# Altium integrated library TI Audio CODEC.IntLib: 199 symbols (part 2 of 17)
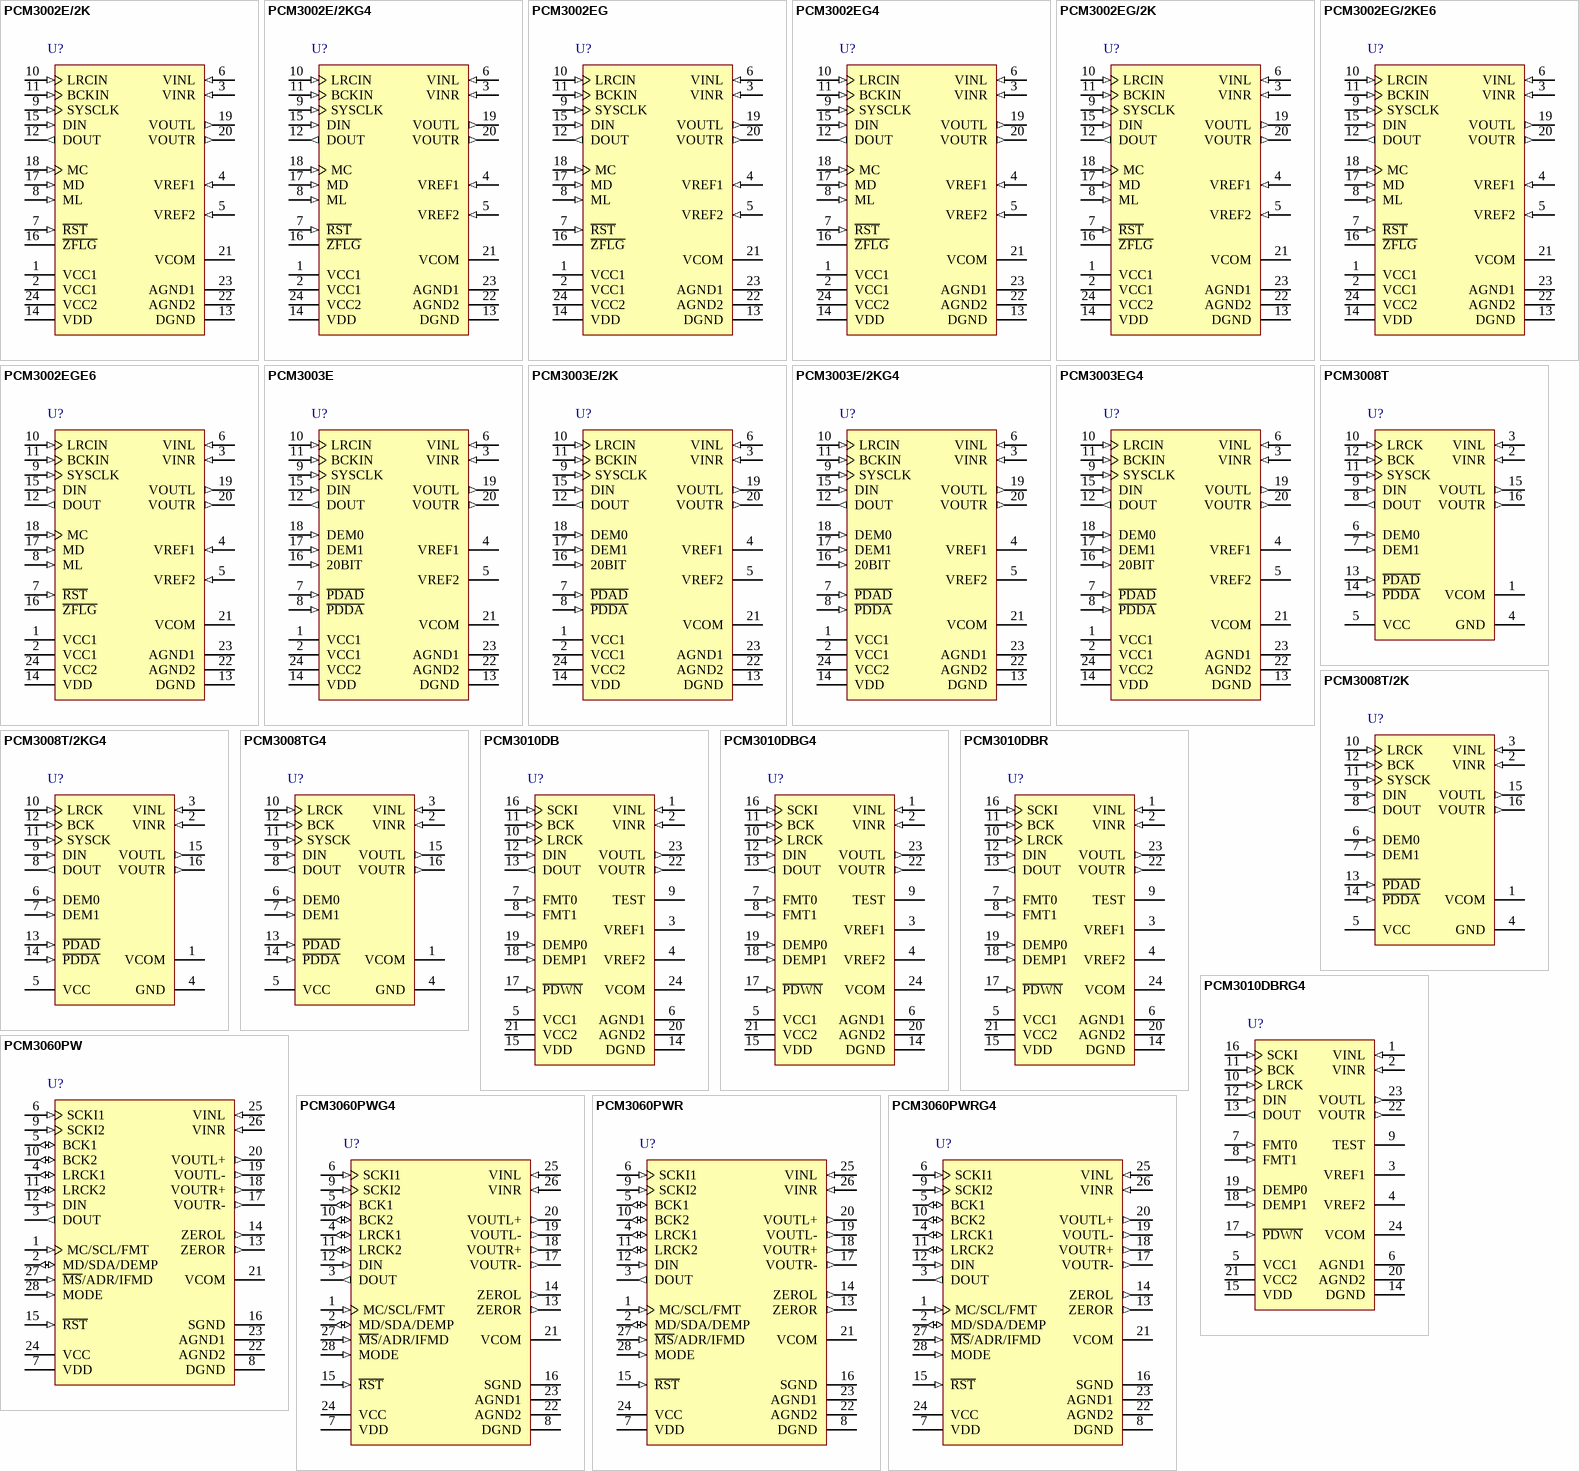
[diagram p14: symbols PCM3002E/2K to PCM3060PWRG4]

## PCM3002EG4
designator U?
Low-Power Stereo CODEC with Line-Out (S / W Control), 2 ADCs and 2 DACs, 94 dB DAC SNR, 24-pin SSOP (DB), Green (RoHS & no Sb/Br); Manufacturer: Texas Instruments; PartNumber: PCM3002EG4; # ADCs (typ): 2; Battery Powered: TRUE; Control Interface: SPI; DAC SNR: 94; Digital Audio Interfaces: R, L, I2S; Sampling Rate (Max) (kHz): 48; DatasheetVersion: SBAS079A; PackageVersion: revE, Dec-2001; PackageReference: DB24; PackageDescription: 24-Pin Plastic Small Outline Package, 8.2 x 5.3 mm Body, 0.65 mm Pitch; Supplier 1: Digi-Key; Supplier Part Number 1: PCM3002EG4-ND; Supplier 2: Newark; Supplier Part Number 2: 66K4095; Supplier 3: Mouser; Supplier Part Number 3: 595-PCM3002EG4; # DACs: 2; Mounting Technology: Surface Mount; Code_JEDEC: MO-150; ComponentLink1Description: Datasheet; ComponentLink1URL: http://www.ti.com/general/docs/lit/getliterature.tsp?genericPartNumber=PCM3002&fileType=pdf
footprint DB24_N (SOP, 24-Leads, Body 8.2x5.3mm, Pitch 0.65mm, IPC Medium Density)
footprint DB24_L (SOP, 24-Leads, Body 8.2x5.3mm, Pitch 0.65mm, IPC High Density)
footprint DB24_M (SOP, 24-Leads, Body 8.2x5.3mm, Pitch 0.65mm, IPC Low Density)
pins: 1 VCC1 (power) "ADC analog power supply", 2 VCC1 (power) "ADC analog power supply", 3 VINR (in) "ADC analog input, Rch", 4 VREF1 (in) "ADC reference 1", 5 VREF2 (in) "ADC reference 2", 6 VINL (in) "ADC analog input, Lch", 7 ~{RST} (in) "Reset, active LOW", 8 ML (in) "Strobe pulse for mode control", 9 SYSCLK (in) "System clock input", 10 LRCIN (in) "Sample rate clock input (f s )", 11 BCKIN (in) "Bit clock input", 12 DOUT (out) "Data output", 13 DGND (power) "Digital ground", 14 VDD (power) "Digital power supply", 15 DIN (in) "Data input", 16 ~{ZFLG} (hiz) "Zero flag output, active LOW", 17 MD (in) "Serial data for mode control", 18 MC (in) "Bit clock for mode control", 19 VOUTL (out) "DAC analog output, Lch", 20 VOUTR (out) "DAC analog output, Rch", 21 VCOM "ADC/DAC common", 22 AGND2 (power) "DAC analog ground", 23 AGND1 (power) "ADC analog ground", 24 VCC2 (power) "DAC analog power supply"

## PCM3002EG/2K
designator U?
Low-Power Stereo CODEC with Line-Out (S / W Control), 2 ADCs and 2 DACs, 94 dB DAC SNR, 24-pin SSOP (DB), Pb-Free (RoHS); Manufacturer: Texas Instruments; PartNumber: PCM3002EG/2K; # ADCs (typ): 2; Battery Powered: TRUE; Control Interface: SPI; DAC SNR: 94; Digital Audio Interfaces: R, L, I2S; Sampling Rate (Max) (kHz): 48; DatasheetVersion: SBAS079A; PackageVersion: revE, Dec-2001; PackageReference: DB24; PackageDescription: 24-Pin Plastic Small Outline Package, 8.2 x 5.3 mm Body, 0.65 mm Pitch; Supplier 1: Digi-Key; Supplier Part Number 1: PCM3002EG/2K-ND; Supplier 2: Newark; Supplier Part Number 2: 43J9717; Supplier 3: Mouser; Supplier Part Number 3: 595-PCM3002EG/2K; # DACs: 2; Mounting Technology: Surface Mount; Code_JEDEC: MO-150; ComponentLink1Description: Datasheet; ComponentLink1URL: http://www.ti.com/general/docs/lit/getliterature.tsp?genericPartNumber=PCM3002&fileType=pdf
footprint DB24_N (SOP, 24-Leads, Body 8.2x5.3mm, Pitch 0.65mm, IPC Medium Density)
footprint DB24_L (SOP, 24-Leads, Body 8.2x5.3mm, Pitch 0.65mm, IPC High Density)
footprint DB24_M (SOP, 24-Leads, Body 8.2x5.3mm, Pitch 0.65mm, IPC Low Density)
pins: 1 VCC1 (power) "ADC analog power supply", 2 VCC1 (power) "ADC analog power supply", 3 VINR (in) "ADC analog input, Rch", 4 VREF1 (in) "ADC reference 1", 5 VREF2 (in) "ADC reference 2", 6 VINL (in) "ADC analog input, Lch", 7 ~{RST} (in) "Reset, active LOW", 8 ML (in) "Strobe pulse for mode control", 9 SYSCLK (in) "System clock input", 10 LRCIN (in) "Sample rate clock input (f s )", 11 BCKIN (in) "Bit clock input", 12 DOUT (out) "Data output", 13 DGND (power) "Digital ground", 14 VDD (power) "Digital power supply", 15 DIN (in) "Data input", 16 ~{ZFLG} (hiz) "Zero flag output, active LOW", 17 MD (in) "Serial data for mode control", 18 MC (in) "Bit clock for mode control", 19 VOUTL (out) "DAC analog output, Lch", 20 VOUTR (out) "DAC analog output, Rch", 21 VCOM "ADC/DAC common", 22 AGND2 (power) "DAC analog ground", 23 AGND1 (power) "ADC analog ground", 24 VCC2 (power) "DAC analog power supply"

## PCM3002EG/2KE6
designator U?
Low-Power Stereo CODEC with Line-Out (S / W Control), 2 ADCs and 2 DACs, 94 dB DAC SNR, 24-pin SSOP (DB), Pb-Free (RoHS); Manufacturer: Texas Instruments; PartNumber: PCM3002EG/2KE6; # ADCs (typ): 2; Battery Powered: TRUE; Control Interface: SPI; DAC SNR: 94; Digital Audio Interfaces: R, L, I2S; Sampling Rate (Max) (kHz): 48; DatasheetVersion: SBAS079A; PackageVersion: revE, Dec-2001; PackageReference: DB24; PackageDescription: 24-Pin Plastic Small Outline Package, 8.2 x 5.3 mm Body, 0.65 mm Pitch; Supplier 1: Digi-Key; Supplier Part Number 1: PCM3002EG/2KE6-ND; Supplier 2: Newark; Supplier Part Number 2: 28M6717; Supplier 3: Mouser; Supplier Part Number 3: 595-PCM3002EG/2KE6; # DACs: 2; Mounting Technology: Surface Mount; Code_JEDEC: MO-150; ComponentLink1Description: Datasheet; ComponentLink1URL: http://www.ti.com/general/docs/lit/getliterature.tsp?genericPartNumber=PCM3002&fileType=pdf
footprint DB24_N (SOP, 24-Leads, Body 8.2x5.3mm, Pitch 0.65mm, IPC Medium Density)
footprint DB24_L (SOP, 24-Leads, Body 8.2x5.3mm, Pitch 0.65mm, IPC High Density)
footprint DB24_M (SOP, 24-Leads, Body 8.2x5.3mm, Pitch 0.65mm, IPC Low Density)
pins: 1 VCC1 (power) "ADC analog power supply", 2 VCC1 (power) "ADC analog power supply", 3 VINR (in) "ADC analog input, Rch", 4 VREF1 (in) "ADC reference 1", 5 VREF2 (in) "ADC reference 2", 6 VINL (in) "ADC analog input, Lch", 7 ~{RST} (in) "Reset, active LOW", 8 ML (in) "Strobe pulse for mode control", 9 SYSCLK (in) "System clock input", 10 LRCIN (in) "Sample rate clock input (f s )", 11 BCKIN (in) "Bit clock input", 12 DOUT (out) "Data output", 13 DGND (power) "Digital ground", 14 VDD (power) "Digital power supply", 15 DIN (in) "Data input", 16 ~{ZFLG} (hiz) "Zero flag output, active LOW", 17 MD (in) "Serial data for mode control", 18 MC (in) "Bit clock for mode control", 19 VOUTL (out) "DAC analog output, Lch", 20 VOUTR (out) "DAC analog output, Rch", 21 VCOM "ADC/DAC common", 22 AGND2 (power) "DAC analog ground", 23 AGND1 (power) "ADC analog ground", 24 VCC2 (power) "DAC analog power supply"

## PCM3002EGE6
designator U?
Low-Power Stereo CODEC with Line-Out (S / W Control), 2 ADCs and 2 DACs, 94 dB DAC SNR, 24-pin SSOP (DB), Pb-Free (RoHS); Manufacturer: Texas Instruments; PartNumber: PCM3002EGE6; # ADCs (typ): 2; Battery Powered: TRUE; Control Interface: SPI; DAC SNR: 94; Digital Audio Interfaces: R, L, I2S; Sampling Rate (Max) (kHz): 48; DatasheetVersion: SBAS079A; PackageVersion: revE, Dec-2001; PackageReference: DB24; PackageDescription: 24-Pin Plastic Small Outline Package, 8.2 x 5.3 mm Body, 0.65 mm Pitch; Supplier 1: Digi-Key; Supplier Part Number 1: PCM3002EGE6-ND; Supplier 2: Newark; Supplier Part Number 2: 28M6718; Supplier 3: Mouser; Supplier Part Number 3: 595-PCM3002EGE6; # DACs: 2; Mounting Technology: Surface Mount; Code_JEDEC: MO-150; ComponentLink1Description: Datasheet; ComponentLink1URL: http://www.ti.com/general/docs/lit/getliterature.tsp?genericPartNumber=PCM3002&fileType=pdf
footprint DB24_N (SOP, 24-Leads, Body 8.2x5.3mm, Pitch 0.65mm, IPC Medium Density)
footprint DB24_L (SOP, 24-Leads, Body 8.2x5.3mm, Pitch 0.65mm, IPC High Density)
footprint DB24_M (SOP, 24-Leads, Body 8.2x5.3mm, Pitch 0.65mm, IPC Low Density)
pins: 1 VCC1 (power) "ADC analog power supply", 2 VCC1 (power) "ADC analog power supply", 3 VINR (in) "ADC analog input, Rch", 4 VREF1 (in) "ADC reference 1", 5 VREF2 (in) "ADC reference 2", 6 VINL (in) "ADC analog input, Lch", 7 ~{RST} (in) "Reset, active LOW", 8 ML (in) "Strobe pulse for mode control", 9 SYSCLK (in) "System clock input", 10 LRCIN (in) "Sample rate clock input (f s )", 11 BCKIN (in) "Bit clock input", 12 DOUT (out) "Data output", 13 DGND (power) "Digital ground", 14 VDD (power) "Digital power supply", 15 DIN (in) "Data input", 16 ~{ZFLG} (hiz) "Zero flag output, active LOW", 17 MD (in) "Serial data for mode control", 18 MC (in) "Bit clock for mode control", 19 VOUTL (out) "DAC analog output, Lch", 20 VOUTR (out) "DAC analog output, Rch", 21 VCOM "ADC/DAC common", 22 AGND2 (power) "DAC analog ground", 23 AGND1 (power) "ADC analog ground", 24 VCC2 (power) "DAC analog power supply"

## PCM3003E
designator U?
Low-Power Stereo CODEC with Line-Out (H / W Control), 2 ADCs and 2 DACs, 94 dB DAC SNR, 24-pin SSOP (DB), Green (RoHS & no Sb/Br); Manufacturer: Texas Instruments; PartNumber: PCM3003E; # ADCs (typ): 2; Battery Powered: TRUE; Control Interface: H/W; DAC SNR: 94; Digital Audio Interfaces: R, L; Sampling Rate (Max) (kHz): 48; DatasheetVersion: SBAS079A; PackageVersion: revE, Dec-2001; PackageReference: DB24; PackageDescription: 24-Pin Plastic Small Outline Package, 8.2 x 5.3 mm Body, 0.65 mm Pitch; Supplier 1: Digi-Key; Supplier Part Number 1: PCM3003E-ND; Supplier 2: Newark; Supplier Part Number 2: 74C5855; Supplier 3: Mouser; Supplier Part Number 3: 595-PCM3003E; # DACs: 2; Mounting Technology: Surface Mount; Code_JEDEC: MO-150; ComponentLink1Description: Datasheet; ComponentLink1URL: http://www.ti.com/general/docs/lit/getliterature.tsp?genericPartNumber=PCM3003&fileType=pdf
footprint DB24_N (SOP, 24-Leads, Body 8.2x5.3mm, Pitch 0.65mm, IPC Medium Density)
footprint DB24_L (SOP, 24-Leads, Body 8.2x5.3mm, Pitch 0.65mm, IPC High Density)
footprint DB24_M (SOP, 24-Leads, Body 8.2x5.3mm, Pitch 0.65mm, IPC Low Density)
pins: 1 VCC1 (power) "ADC analog power supply", 2 VCC1 (power) "ADC analog power supply", 3 VINR (in) "ADC analog input, Rch", 4 VREF1 "ADC reference 1", 5 VREF2 "ADC reference 2", 6 VINL (in) "ADC analog input, Lch", 7 ~{PDAD} (in) "ADC power down, active LOW", 8 ~{PDDA} (in) "DAC power down, active LOW", 9 SYSCLK (in) "System clock input", 10 LRCIN (in) "Sample rate clock input (fs)", 11 BCKIN (in) "Bit clock input", 12 DOUT (out) "Data output", 13 DGND (power) "Digital ground", 14 VDD (power) "Digital power supply", 15 DIN (in) "Data input", 16 20BIT (in) "20-bit format select", 17 DEM1 (in) "De-emphasis control 1", 18 DEM0 (in) "De-emphasis control 0", 19 VOUTL (out) "DAC analog output, Lch", 20 VOUTR (out) "DAC analog output, Rch", 21 VCOM "ADC/DAC common", 22 AGND2 (power) "DAC analog ground", 23 AGND1 (power) "ADC analog ground", 24 VCC2 (power) "DAC analog power supply"

## PCM3003E/2K
designator U?
Low-Power Stereo CODEC with Line-Out (H / W Control), 2 ADCs and 2 DACs, 94 dB DAC SNR, 24-pin SSOP (DB), Green (RoHS & no Sb/Br); Manufacturer: Texas Instruments; PartNumber: PCM3003E/2K; # ADCs (typ): 2; Battery Powered: TRUE; Control Interface: H/W; DAC SNR: 94; Digital Audio Interfaces: R, L; Sampling Rate (Max) (kHz): 48; DatasheetVersion: SBAS079A; PackageVersion: revE, Dec-2001; PackageReference: DB24; PackageDescription: 24-Pin Plastic Small Outline Package, 8.2 x 5.3 mm Body, 0.65 mm Pitch; Supplier 1: Digi-Key; Supplier Part Number 1: PCM3003E/2K-ND; Supplier 2: Newark; Supplier Part Number 2: 75C5391; Supplier 3: Mouser; Supplier Part Number 3: 595-PCM3003E/2K; # DACs: 2; Mounting Technology: Surface Mount; Code_JEDEC: MO-150; ComponentLink1Description: Datasheet; ComponentLink1URL: http://www.ti.com/general/docs/lit/getliterature.tsp?genericPartNumber=PCM3003&fileType=pdf
footprint DB24_N (SOP, 24-Leads, Body 8.2x5.3mm, Pitch 0.65mm, IPC Medium Density)
footprint DB24_L (SOP, 24-Leads, Body 8.2x5.3mm, Pitch 0.65mm, IPC High Density)
footprint DB24_M (SOP, 24-Leads, Body 8.2x5.3mm, Pitch 0.65mm, IPC Low Density)
pins: 1 VCC1 (power) "ADC analog power supply", 2 VCC1 (power) "ADC analog power supply", 3 VINR (in) "ADC analog input, Rch", 4 VREF1 "ADC reference 1", 5 VREF2 "ADC reference 2", 6 VINL (in) "ADC analog input, Lch", 7 ~{PDAD} (in) "ADC power down, active LOW", 8 ~{PDDA} (in) "DAC power down, active LOW", 9 SYSCLK (in) "System clock input", 10 LRCIN (in) "Sample rate clock input (fs)", 11 BCKIN (in) "Bit clock input", 12 DOUT (out) "Data output", 13 DGND (power) "Digital ground", 14 VDD (power) "Digital power supply", 15 DIN (in) "Data input", 16 20BIT (in) "20-bit format select", 17 DEM1 (in) "De-emphasis control 1", 18 DEM0 (in) "De-emphasis control 0", 19 VOUTL (out) "DAC analog output, Lch", 20 VOUTR (out) "DAC analog output, Rch", 21 VCOM "ADC/DAC common", 22 AGND2 (power) "DAC analog ground", 23 AGND1 (power) "ADC analog ground", 24 VCC2 (power) "DAC analog power supply"

## PCM3003E/2KG4
designator U?
Low-Power Stereo CODEC with Line-Out (H / W Control), 2 ADCs and 2 DACs, 94 dB DAC SNR, 24-pin SSOP (DB), Green (RoHS & no Sb/Br); Manufacturer: Texas Instruments; PartNumber: PCM3003E/2KG4; # ADCs (typ): 2; Battery Powered: TRUE; Control Interface: H/W; DAC SNR: 94; Digital Audio Interfaces: R, L; Sampling Rate (Max) (kHz): 48; DatasheetVersion: SBAS079A; PackageVersion: revE, Dec-2001; PackageReference: DB24; PackageDescription: 24-Pin Plastic Small Outline Package, 8.2 x 5.3 mm Body, 0.65 mm Pitch; Supplier 1: Digi-Key; Supplier Part Number 1: PCM3003E/2KG4-ND; Supplier 2: Newark; Supplier Part Number 2: 66K4096; Supplier 3: Mouser; Supplier Part Number 3: 595-PCM3003E/2KG4; # DACs: 2; Mounting Technology: Surface Mount; Code_JEDEC: MO-150; ComponentLink1Description: Datasheet; ComponentLink1URL: http://www.ti.com/general/docs/lit/getliterature.tsp?genericPartNumber=PCM3003&fileType=pdf
footprint DB24_N (SOP, 24-Leads, Body 8.2x5.3mm, Pitch 0.65mm, IPC Medium Density)
footprint DB24_L (SOP, 24-Leads, Body 8.2x5.3mm, Pitch 0.65mm, IPC High Density)
footprint DB24_M (SOP, 24-Leads, Body 8.2x5.3mm, Pitch 0.65mm, IPC Low Density)
pins: 1 VCC1 (power) "ADC analog power supply", 2 VCC1 (power) "ADC analog power supply", 3 VINR (in) "ADC analog input, Rch", 4 VREF1 "ADC reference 1", 5 VREF2 "ADC reference 2", 6 VINL (in) "ADC analog input, Lch", 7 ~{PDAD} (in) "ADC power down, active LOW", 8 ~{PDDA} (in) "DAC power down, active LOW", 9 SYSCLK (in) "System clock input", 10 LRCIN (in) "Sample rate clock input (fs)", 11 BCKIN (in) "Bit clock input", 12 DOUT (out) "Data output", 13 DGND (power) "Digital ground", 14 VDD (power) "Digital power supply", 15 DIN (in) "Data input", 16 20BIT (in) "20-bit format select", 17 DEM1 (in) "De-emphasis control 1", 18 DEM0 (in) "De-emphasis control 0", 19 VOUTL (out) "DAC analog output, Lch", 20 VOUTR (out) "DAC analog output, Rch", 21 VCOM "ADC/DAC common", 22 AGND2 (power) "DAC analog ground", 23 AGND1 (power) "ADC analog ground", 24 VCC2 (power) "DAC analog power supply"

## PCM3003EG4
designator U?
Low-Power Stereo CODEC with Line-Out (H / W Control), 2 ADCs and 2 DACs, 94 dB DAC SNR, 24-pin SSOP (DB), Green (RoHS & no Sb/Br); Manufacturer: Texas Instruments; PartNumber: PCM3003EG4; # ADCs (typ): 2; Battery Powered: TRUE; Control Interface: H/W; DAC SNR: 94; Digital Audio Interfaces: R, L; Sampling Rate (Max) (kHz): 48; DatasheetVersion: SBAS079A; PackageVersion: revE, Dec-2001; PackageReference: DB24; PackageDescription: 24-Pin Plastic Small Outline Package, 8.2 x 5.3 mm Body, 0.65 mm Pitch; Supplier 1: Digi-Key; Supplier Part Number 1: PCM3003EG4-ND; Supplier 2: Newark; Supplier Part Number 2: 20M5705; Supplier 3: Mouser; Supplier Part Number 3: 595-PCM3003EG4; # DACs: 2; Mounting Technology: Surface Mount; Code_JEDEC: MO-150; ComponentLink1Description: Datasheet; ComponentLink1URL: http://www.ti.com/general/docs/lit/getliterature.tsp?genericPartNumber=PCM3003&fileType=pdf
footprint DB24_N (SOP, 24-Leads, Body 8.2x5.3mm, Pitch 0.65mm, IPC Medium Density)
footprint DB24_L (SOP, 24-Leads, Body 8.2x5.3mm, Pitch 0.65mm, IPC High Density)
footprint DB24_M (SOP, 24-Leads, Body 8.2x5.3mm, Pitch 0.65mm, IPC Low Density)
pins: 1 VCC1 (power) "ADC analog power supply", 2 VCC1 (power) "ADC analog power supply", 3 VINR (in) "ADC analog input, Rch", 4 VREF1 "ADC reference 1", 5 VREF2 "ADC reference 2", 6 VINL (in) "ADC analog input, Lch", 7 ~{PDAD} (in) "ADC power down, active LOW", 8 ~{PDDA} (in) "DAC power down, active LOW", 9 SYSCLK (in) "System clock input", 10 LRCIN (in) "Sample rate clock input (fs)", 11 BCKIN (in) "Bit clock input", 12 DOUT (out) "Data output", 13 DGND (power) "Digital ground", 14 VDD (power) "Digital power supply", 15 DIN (in) "Data input", 16 20BIT (in) "20-bit format select", 17 DEM1 (in) "De-emphasis control 1", 18 DEM0 (in) "De-emphasis control 0", 19 VOUTL (out) "DAC analog output, Lch", 20 VOUTR (out) "DAC analog output, Rch", 21 VCOM "ADC/DAC common", 22 AGND2 (power) "DAC analog ground", 23 AGND1 (power) "ADC analog ground", 24 VCC2 (power) "DAC analog power supply"

## PCM3008T
designator U?
Low-Power and Low-Voltage Stereo CODEC with Line-Out (H / W Control), 2 ADCs and 2 DACs, 92 dB DAC SNR, -25 to 85 degC, 16-pin TSSOP (PW), Green (RoHS & no Sb/Br); Manufacturer: Texas Instruments; PartNumber: PCM3008T; # ADCs (typ): 2; Battery Powered: TRUE; Control Interface: H/W; DAC SNR: 92; Digital Audio Interfaces: R, L; Sampling Rate (Max) (kHz): 48; DatasheetVersion: SLAS332; PackageVersion: revG, Feb-2011; PackageReference: PW16; PackageDescription: 16-Pin Plastic Thin Small Outline Package 5 x 4.4 mm Body ,0.65 mm Pitch; Supplier 1: Digi-Key; Supplier Part Number 1: PCM3008T-ND; Supplier 2: Newark; Supplier Part Number 2: 75C5394; Supplier 3: Mouser; Supplier Part Number 3: 595-PCM3008T; # DACs: 2; Mounting Technology: Surface Mount; Code_JEDEC: MO-153; ComponentLink1Description: Datasheet; ComponentLink1URL: http://www.ti.com/general/docs/lit/getliterature.tsp?genericPartNumber=PCM3008&fileType=pdf
footprint PW16_N (TSOP, 16-Leads, Body 5x4.4mm, Pitch 0.65mm, IPC Medium Density)
footprint PW16_L (TSOP, 16-Leads, Body 5x4.4mm, Pitch 0.65mm, IPC High Density)
footprint PW16_M (TSOP, 16-Leads, Body 5x4.4mm, Pitch 0.65mm, IPC Low Density)
pins: 1 VCOM "ADC/DAC common decouple", 2 VINR (in) "ADC analog input, R-channel.", 3 VINL (in) "ADC analog input, L-channel.", 4 GND (power) "Ground.", 5 VCC (power) "Power supply.", 6 DEM0 (in) "De-emphasis control 0", 7 DEM1 (in) "De-emphasis control 1", 8 DOUT (out) "Data output", 9 DIN (in) "Data input", 10 LRCK (in) "Sampling clock input", 11 SYSCK (in) "System clock input", 12 BCK (in) "Bit clock input", 13 ~{PDAD} (in) "ADC power down, active low", 14 ~{PDDA} (in) "DAC power down, active low", 15 VOUTL (out) "DAC analog output, L-channel.", 16 VOUTR (out) "DAC analog output, R-channel."

## PCM3008T/2K
designator U?
Low-Power and Low Voltage Stereo CODEC with Line-Out (H / W Control), 2 ADCs and 2 DACs, 92 dB DAC SNR, -25 to 85 degC, 16-pin TSSOP (PW), Green (RoHS & no Sb/Br); Manufacturer: Texas Instruments; PartNumber: PCM3008T/2K; # ADCs (typ): 2; Battery Powered: TRUE; Control Interface: H/W; DAC SNR: 92; Digital Audio Interfaces: R, L; Sampling Rate (Max) (kHz): 48; DatasheetVersion: SLAS332; PackageVersion: revG, Feb-2011; PackageReference: PW16; PackageDescription: 16-Pin Plastic Thin Small Outline Package 5 x 4.4 mm Body ,0.65 mm Pitch; Supplier 1: Digi-Key; Supplier Part Number 1: PCM3008T/2K-ND; Supplier 2: Newark; Supplier Part Number 2: 75C5395; Supplier 3: Mouser; Supplier Part Number 3: 595-PCM3008T/2K; # DACs: 2; Mounting Technology: Surface Mount; Code_JEDEC: MO-153; ComponentLink1Description: Datasheet; ComponentLink1URL: http://www.ti.com/general/docs/lit/getliterature.tsp?genericPartNumber=PCM3008&fileType=pdf
footprint PW16_N (TSOP, 16-Leads, Body 5x4.4mm, Pitch 0.65mm, IPC Medium Density)
footprint PW16_L (TSOP, 16-Leads, Body 5x4.4mm, Pitch 0.65mm, IPC High Density)
footprint PW16_M (TSOP, 16-Leads, Body 5x4.4mm, Pitch 0.65mm, IPC Low Density)
pins: 1 VCOM "ADC/DAC common decouple", 2 VINR (in) "ADC analog input, R-channel.", 3 VINL (in) "ADC analog input, L-channel.", 4 GND (power) "Ground.", 5 VCC (power) "Power supply.", 6 DEM0 (in) "De-emphasis control 0", 7 DEM1 (in) "De-emphasis control 1", 8 DOUT (out) "Data output", 9 DIN (in) "Data input", 10 LRCK (in) "Sampling clock input", 11 SYSCK (in) "System clock input", 12 BCK (in) "Bit clock input", 13 ~{PDAD} (in) "ADC power down, active low", 14 ~{PDDA} (in) "DAC power down, active low", 15 VOUTL (out) "DAC analog output, L-channel.", 16 VOUTR (out) "DAC analog output, R-channel."

## PCM3008T/2KG4
designator U?
Low-Power and Low-Voltage Stereo CODEC with Line-Out (H / W Control), 2 ADCs and 2 DACs, 92 dB DAC SNR, -25 to 85 degC, 16-pin TSSOP (PW), Green (RoHS & no Sb/Br); Manufacturer: Texas Instruments; PartNumber: PCM3008T/2KG4; # ADCs (typ): 2; Battery Powered: TRUE; Control Interface: H/W; DAC SNR: 92; Digital Audio Interfaces: R, L; Sampling Rate (Max) (kHz): 48; DatasheetVersion: SLAS332; PackageVersion: revG, Feb-2011; PackageReference: PW16; PackageDescription: 16-Pin Plastic Thin Small Outline Package 5 x 4.4 mm Body ,0.65 mm Pitch; Supplier 1: Digi-Key; Supplier Part Number 1: PCM3008T/2KG4-ND; Supplier 2: Newark; Supplier Part Number 2: 66K4097; Supplier 3: Mouser; Supplier Part Number 3: 595-PCM3008T/2KG4; # DACs: 2; Mounting Technology: Surface Mount; Code_JEDEC: MO-153; ComponentLink1Description: Datasheet; ComponentLink1URL: http://www.ti.com/general/docs/lit/getliterature.tsp?genericPartNumber=PCM3008&fileType=pdf
footprint PW16_N (TSOP, 16-Leads, Body 5x4.4mm, Pitch 0.65mm, IPC Medium Density)
footprint PW16_L (TSOP, 16-Leads, Body 5x4.4mm, Pitch 0.65mm, IPC High Density)
footprint PW16_M (TSOP, 16-Leads, Body 5x4.4mm, Pitch 0.65mm, IPC Low Density)
pins: 1 VCOM "ADC/DAC common decouple", 2 VINR (in) "ADC analog input, R-channel.", 3 VINL (in) "ADC analog input, L-channel.", 4 GND (power) "Ground.", 5 VCC (power) "Power supply.", 6 DEM0 (in) "De-emphasis control 0", 7 DEM1 (in) "De-emphasis control 1", 8 DOUT (out) "Data output", 9 DIN (in) "Data input", 10 LRCK (in) "Sampling clock input", 11 SYSCK (in) "System clock input", 12 BCK (in) "Bit clock input", 13 ~{PDAD} (in) "ADC power down, active low", 14 ~{PDDA} (in) "DAC power down, active low", 15 VOUTL (out) "DAC analog output, L-channel.", 16 VOUTR (out) "DAC analog output, R-channel."

## PCM3008TG4
designator U?
Low-Power and Low-Voltage Stereo CODEC with Line-Out (H / W Control), 2 ADCs and 2 DACs, 92 dB DAC SNR, -25 to 85 degC, 16-pin TSSOP (PW), Green (RoHS & no Sb/Br); Manufacturer: Texas Instruments; PartNumber: PCM3008TG4; # ADCs (typ): 2; Battery Powered: TRUE; Control Interface: H/W; DAC SNR: 92; Digital Audio Interfaces: R, L; Sampling Rate (Max) (kHz): 48; DatasheetVersion: SLAS332; PackageVersion: revG, Feb-2011; PackageReference: PW16; PackageDescription: 16-Pin Plastic Thin Small Outline Package 5 x 4.4 mm Body ,0.65 mm Pitch; Supplier 1: Digi-Key; Supplier Part Number 1: PCM3008TG4-ND; Supplier 2: Newark; Supplier Part Number 2: 66K4098; Supplier 3: Mouser; Supplier Part Number 3: 595-PCM3008TG4; # DACs: 2; Mounting Technology: Surface Mount; Code_JEDEC: MO-153; ComponentLink1Description: Datasheet; ComponentLink1URL: http://www.ti.com/general/docs/lit/getliterature.tsp?genericPartNumber=PCM3008&fileType=pdf
footprint PW16_N (TSOP, 16-Leads, Body 5x4.4mm, Pitch 0.65mm, IPC Medium Density)
footprint PW16_L (TSOP, 16-Leads, Body 5x4.4mm, Pitch 0.65mm, IPC High Density)
footprint PW16_M (TSOP, 16-Leads, Body 5x4.4mm, Pitch 0.65mm, IPC Low Density)
pins: 1 VCOM "ADC/DAC common decouple", 2 VINR (in) "ADC analog input, R-channel.", 3 VINL (in) "ADC analog input, L-channel.", 4 GND (power) "Ground.", 5 VCC (power) "Power supply.", 6 DEM0 (in) "De-emphasis control 0", 7 DEM1 (in) "De-emphasis control 1", 8 DOUT (out) "Data output", 9 DIN (in) "Data input", 10 LRCK (in) "Sampling clock input", 11 SYSCK (in) "System clock input", 12 BCK (in) "Bit clock input", 13 ~{PDAD} (in) "ADC power down, active low", 14 ~{PDDA} (in) "DAC power down, active low", 15 VOUTL (out) "DAC analog output, L-channel.", 16 VOUTR (out) "DAC analog output, R-channel."

## PCM3010DB
designator U?
24-bit Stereo Audio CODEC 96 kHz (ADC) 192 kHz (DAC) with Single-Ended Analog Input / Output, 2 ADCs and 2 DACs, 104 dB DAC SNR, -25 to 85 degC, 24 -pin SSOP (DB), Green (RoHS & no Sb/Br); Manufacturer: Texas Instruments; PartNumber: PCM3010DB; # ADCs (typ): 2; Control Interface: H/W; DAC SNR: 104; Digital Audio Interfaces: R, L, I2S; Line Powered: TRUE; Sampling Rate (Max) (kHz): 192; DatasheetVersion: SLES055; PackageVersion: revE, Dec-2001; PackageReference: DB24; PackageDescription: 24-Pin Plastic Small Outline Package, 8.2 x 5.3 mm Body, 0.65 mm Pitch; Supplier 1: Digi-Key; Supplier Part Number 1: 296-14398-5-ND; Supplier 2: Farnell; Supplier Part Number 2: 8434794; Supplier 3: Newark; Supplier Part Number 3: 32H5919; Supplier 4: Mouser; Supplier Part Number 4: 595-PCM3010DB; # DACs: 2; Mounting Technology: Surface Mount; Code_JEDEC: MO-150; ComponentLink1Description: Datasheet; ComponentLink1URL: http://www.ti.com/general/docs/lit/getliterature.tsp?genericPartNumber=PCM3010&fileType=pdf
footprint DB24_N (SOP, 24-Leads, Body 8.2x5.3mm, Pitch 0.65mm, IPC Medium Density)
footprint DB24_L (SOP, 24-Leads, Body 8.2x5.3mm, Pitch 0.65mm, IPC High Density)
footprint DB24_M (SOP, 24-Leads, Body 8.2x5.3mm, Pitch 0.65mm, IPC Low Density)
pins: 1 VINL (in) "ADC analog input, L-channel", 2 VINR (in) "ADC analog input, R-channel", 3 VREF1 "ADC reference voltage decoupling, 1 (= 0.5 VCC1)", 4 VREF2 "ADC reference voltage decoupling, 2", 5 VCC1 (power) "ADC analog power supply, 5 V", 6 AGND1 (power) "ADC analog ground", 7 FMT0 (in) "Audio data format select input, 0", 8 FMT1 (in) "Audio data format select input, 1", 9 TEST (power) "Test control, must be open or connected to DGND", 10 LRCK (in) "Audio data latch enable input", 11 BCK (in) "Audio data bit clock input", 12 DIN (in) "Audio data digital input", 13 DOUT (out) "Audio data digital output", 14 DGND (power) "Digital ground", 15 VDD (power) "Digital power supply, 3.3 V", 16 SCKI (in) "System clock input", 17 ~{PDWN} (in) "ADC and DAC power-down control input, active LOW", 18 DEMP1 (in) "De-emphasis select input, 1", 19 DEMP0 (in) "De-emphasis select input, 0", 20 AGND2 (power) "DAC analog ground", 21 VCC2 (power) "DAC analog power supply, 5 V", 22 VOUTR (out) "DAC analog output, R-channel", 23 VOUTL (out) "DAC analog output, L-channel", 24 VCOM "DAC common voltage decoupling (= 0.5 VCC2)"

## PCM3010DBG4
designator U?
24-bit Stereo Audio CODEC 96 kHz (ADC) 192 kHz (DAC) with Single-Ended Analog Input / Output, 2 ADCs and 2 DACs, 104 dB DAC SNR, -25 to 85 degC, 24-pin SSOP (DB), Green (RoHS & no Sb/Br); Manufacturer: Texas Instruments; PartNumber: PCM3010DBG4; # ADCs (typ): 2; Control Interface: H/W; DAC SNR: 104; Digital Audio Interfaces: R, L, I2S; Line Powered: TRUE; Sampling Rate (Max) (kHz): 192; DatasheetVersion: SLES055; PackageVersion: revE, Dec-2001; PackageReference: DB24; PackageDescription: 24-Pin Plastic Small Outline Package, 8.2 x 5.3 mm Body, 0.65 mm Pitch; Supplier 1: Digi-Key; Supplier Part Number 1: PCM3010DBG4-ND; Supplier 2: Newark; Supplier Part Number 2: 66K4099; Supplier 3: Mouser; Supplier Part Number 3: 595-PCM3010DBG4; # DACs: 2; Mounting Technology: Surface Mount; Code_JEDEC: MO-150; ComponentLink1Description: Datasheet; ComponentLink1URL: http://www.ti.com/general/docs/lit/getliterature.tsp?genericPartNumber=PCM3010&fileType=pdf
footprint DB24_N (SOP, 24-Leads, Body 8.2x5.3mm, Pitch 0.65mm, IPC Medium Density)
footprint DB24_L (SOP, 24-Leads, Body 8.2x5.3mm, Pitch 0.65mm, IPC High Density)
footprint DB24_M (SOP, 24-Leads, Body 8.2x5.3mm, Pitch 0.65mm, IPC Low Density)
pins: 1 VINL (in) "ADC analog input, L-channel", 2 VINR (in) "ADC analog input, R-channel", 3 VREF1 "ADC reference voltage decoupling, 1 (= 0.5 VCC1)", 4 VREF2 "ADC reference voltage decoupling, 2", 5 VCC1 (power) "ADC analog power supply, 5 V", 6 AGND1 (power) "ADC analog ground", 7 FMT0 (in) "Audio data format select input, 0", 8 FMT1 (in) "Audio data format select input, 1", 9 TEST (power) "Test control, must be open or connected to DGND", 10 LRCK (in) "Audio data latch enable input", 11 BCK (in) "Audio data bit clock input", 12 DIN (in) "Audio data digital input", 13 DOUT (out) "Audio data digital output", 14 DGND (power) "Digital ground", 15 VDD (power) "Digital power supply, 3.3 V", 16 SCKI (in) "System clock input", 17 ~{PDWN} (in) "ADC and DAC power-down control input, active LOW", 18 DEMP1 (in) "De-emphasis select input, 1", 19 DEMP0 (in) "De-emphasis select input, 0", 20 AGND2 (power) "DAC analog ground", 21 VCC2 (power) "DAC analog power supply, 5 V", 22 VOUTR (out) "DAC analog output, R-channel", 23 VOUTL (out) "DAC analog output, L-channel", 24 VCOM "DAC common voltage decoupling (= 0.5 VCC2)"

## PCM3010DBR
designator U?
24-bit Stereo Audio CODEC 96 kHz (ADC) 192 kHz (DAC) with Single-Ended Analog Input / Output, 2 ADCs and 2 DACs, 104 dB DAC SNR, -25 to 85 degC, 24-pin SSOP (DB), Green (RoHS & no Sb/Br); Manufacturer: Texas Instruments; PartNumber: PCM3010DBR; # ADCs (typ): 2; Control Interface: H/W; DAC SNR: 104; Digital Audio Interfaces: R, L, I2S; Line Powered: TRUE; Sampling Rate (Max) (kHz): 192; DatasheetVersion: SLES055; PackageVersion: revE, Dec-2001; PackageReference: DB24; PackageDescription: 24-Pin Plastic Small Outline Package, 8.2 x 5.3 mm Body, 0.65 mm Pitch; Supplier 1: Digi-Key; Supplier Part Number 1: PCM3010DBR-ND; Supplier 2: Newark; Supplier Part Number 2: 32H5920; Supplier 3: Mouser; Supplier Part Number 3: 595-PCM3010DBR; # DACs: 2; Mounting Technology: Surface Mount; Code_JEDEC: MO-150; ComponentLink1Description: Datasheet; ComponentLink1URL: http://www.ti.com/general/docs/lit/getliterature.tsp?genericPartNumber=PCM3010&fileType=pdf
footprint DB24_N (SOP, 24-Leads, Body 8.2x5.3mm, Pitch 0.65mm, IPC Medium Density)
footprint DB24_L (SOP, 24-Leads, Body 8.2x5.3mm, Pitch 0.65mm, IPC High Density)
footprint DB24_M (SOP, 24-Leads, Body 8.2x5.3mm, Pitch 0.65mm, IPC Low Density)
pins: 1 VINL (in) "ADC analog input, L-channel", 2 VINR (in) "ADC analog input, R-channel", 3 VREF1 "ADC reference voltage decoupling, 1 (= 0.5 VCC1)", 4 VREF2 "ADC reference voltage decoupling, 2", 5 VCC1 (power) "ADC analog power supply, 5 V", 6 AGND1 (power) "ADC analog ground", 7 FMT0 (in) "Audio data format select input, 0", 8 FMT1 (in) "Audio data format select input, 1", 9 TEST (power) "Test control, must be open or connected to DGND", 10 LRCK (in) "Audio data latch enable input", 11 BCK (in) "Audio data bit clock input", 12 DIN (in) "Audio data digital input", 13 DOUT (out) "Audio data digital output", 14 DGND (power) "Digital ground", 15 VDD (power) "Digital power supply, 3.3 V", 16 SCKI (in) "System clock input", 17 ~{PDWN} (in) "ADC and DAC power-down control input, active LOW", 18 DEMP1 (in) "De-emphasis select input, 1", 19 DEMP0 (in) "De-emphasis select input, 0", 20 AGND2 (power) "DAC analog ground", 21 VCC2 (power) "DAC analog power supply, 5 V", 22 VOUTR (out) "DAC analog output, R-channel", 23 VOUTL (out) "DAC analog output, L-channel", 24 VCOM "DAC common voltage decoupling (= 0.5 VCC2)"

## PCM3010DBRG4
designator U?
24-bit Stereo Audio CODEC 96 kHz (ADC) 192 kHz (DAC) with Single-Ended Analog Input / Output, 2 ADCs and 2 DACs, 104 dB DAC SNR, -25 to 85 degC, 24 -pin SSOP (DB), Green (RoHS & no Sb/Br); Manufacturer: Texas Instruments; PartNumber: PCM3010DBRG4; # ADCs (typ): 2; Control Interface: H/W; DAC SNR: 104; Digital Audio Interfaces: R, L, I2S; Line Powered: TRUE; Sampling Rate (Max) (kHz): 192; DatasheetVersion: SLES055; PackageVersion: revE, Dec-2001; PackageReference: DB24; PackageDescription: 24-Pin Plastic Small Outline Package, 8.2 x 5.3 mm Body, 0.65 mm Pitch; Supplier 1: Digi-Key; Supplier Part Number 1: PCM3010DBRG4-ND; Supplier 2: Newark; Supplier Part Number 2: 66K4100; Supplier 3: Mouser; Supplier Part Number 3: 595-PCM3010DBRG4; # DACs: 2; Mounting Technology: Surface Mount; Code_JEDEC: MO-150; ComponentLink1Description: Datasheet; ComponentLink1URL: http://www.ti.com/general/docs/lit/getliterature.tsp?genericPartNumber=PCM3010&fileType=pdf
footprint DB24_N (SOP, 24-Leads, Body 8.2x5.3mm, Pitch 0.65mm, IPC Medium Density)
footprint DB24_L (SOP, 24-Leads, Body 8.2x5.3mm, Pitch 0.65mm, IPC High Density)
footprint DB24_M (SOP, 24-Leads, Body 8.2x5.3mm, Pitch 0.65mm, IPC Low Density)
pins: 1 VINL (in) "ADC analog input, L-channel", 2 VINR (in) "ADC analog input, R-channel", 3 VREF1 "ADC reference voltage decoupling, 1 (= 0.5 VCC1)", 4 VREF2 "ADC reference voltage decoupling, 2", 5 VCC1 (power) "ADC analog power supply, 5 V", 6 AGND1 (power) "ADC analog ground", 7 FMT0 (in) "Audio data format select input, 0", 8 FMT1 (in) "Audio data format select input, 1", 9 TEST (power) "Test control, must be open or connected to DGND", 10 LRCK (in) "Audio data latch enable input", 11 BCK (in) "Audio data bit clock input", 12 DIN (in) "Audio data digital input", 13 DOUT (out) "Audio data digital output", 14 DGND (power) "Digital ground", 15 VDD (power) "Digital power supply, 3.3 V", 16 SCKI (in) "System clock input", 17 ~{PDWN} (in) "ADC and DAC power-down control input, active LOW", 18 DEMP1 (in) "De-emphasis select input, 1", 19 DEMP0 (in) "De-emphasis select input, 0", 20 AGND2 (power) "DAC analog ground", 21 VCC2 (power) "DAC analog power supply, 5 V", 22 VOUTR (out) "DAC analog output, R-channel", 23 VOUTL (out) "DAC analog output, L-channel", 24 VCOM "DAC common voltage decoupling (= 0.5 VCC2)"

## PCM3060PW
designator U?
24-bit Asynchronous Stereo Audio CODEC with 96 / 192 kHz Sampling Rate, 2 ADCs and 2 DACs, 105 dB DAC SNR, -25 to 85 degC, 28-pin TSSOP (PW), Green (RoHS & no Sb/Br); Manufacturer: Texas Instruments; PartNumber: PCM3060PW; # ADCs (typ): 2; Control Interface: SPI, I2C, H/W; DAC SNR: 105; Digital Audio Interfaces: R, L, I2S; Line Powered: TRUE; Sampling Rate (Max) (kHz): 192; DatasheetVersion: SLAS533B; PackageVersion: revG, Feb-2011; PackageReference: PW28; PackageDescription: 28-Pin Plastic Thin Small Outline Package 9.7 x 4.4 mm Body ,0.65 mm Pitch; Supplier 1: Digi-Key; Supplier Part Number 1: 296-21668-5-ND; Supplier 2: Farnell; Supplier Part Number 2: 1390706; Supplier 3: Newark; Supplier Part Number 3: 36M9294; Supplier 4: Mouser; Supplier Part Number 4: 595-PCM3060PW; # DACs: 2; Additional Features: Asynchronous; Mounting Technology: Surface Mount; Code_JEDEC: MO-153; ComponentLink1Description: Datasheet; ComponentLink1URL: http://www.ti.com/general/docs/lit/getliterature.tsp?genericPartNumber=PCM3060&fileType=pdf
footprint PW28_N (TSOP, 28-Leads, Body 9.7x4.4mm, Pitch 0.65mm, IPC Medium Density)
footprint PW28_L (TSOP, 28-Leads, Body 9.7x4.4mm, Pitch 0.65mm, IPC High Density)
footprint PW28_M (TSOP, 28-Leads, Body 9.7x4.4mm, Pitch 0.65mm, IPC Low Density)
pins: 1 MC/SCL/FMT (in) "Mode control, clock for SPI, clock for I2C, format for H/W mode", 2 MD/SDA/DEMP (io) "Mode control, data for SPI, data for I2C, de-emphasis for H/W mode", 3 DOUT (out) "Audio data digital output for ADC", 4 LRCK1 (io) "Audio data left/right clock input/output for ADC", 5 BCK1 (io) "Audio data bit clock input/output for ADC", 6 SCKI1 (in) "System clock input for ADC", 7 VDD (power) "Digital power supply, 3.3-V", 8 DGND (power) "Digital ground", 9 SCKI2 (in) "System clock input for DAC", 10 BCK2 (io) "Audio data bit clock input/output for DAC", 11 LRCK2 (io) "Audio data left/right clock input/output for DAC", 12 DIN (in) "Audio data digital input for DAC", 13 ZEROR (out) "Zero flag, R-channel", 14 ZEROL (out) "Zero flag, L-channel", 15 ~{RST} (in) "Reset and power-down control input, active-low", 16 SGND (power) "Shield analog ground", 17 VOUTR- (out) "Analog output from DAC, R-channel - in differential mode, must be open in single-ended mode", 18 VOUTR+ (out) "Analog output from DAC, R-channel + in differential mode, R-channel in single-ended mode", 19 VOUTL- (out) "Analog output from DAC, L-channel - in differential mode, must be open in single-ended mode", 20 VOUTL+ (out) "Analog output from DAC, L-channel + in differential mode, L-channel in single-ended mode", 21 VCOM "ADC, DAC voltage common decoupling", 22 AGND2 (power) "DAC analog ground", 23 AGND1 (power) "ADC analog ground", 24 VCC (power) "ADC, DAC analog power supply, 5-V", 25 VINL (in) "Analog input to ADC, L-channel", 26 VINR (in) "Analog input to ADC, R-channel", 27 ~{MS}/ADR/IFMD (in) "Mode control, select for SPI with low active, address for I2C, I/F mode for H/W mode", 28 MODE (in) "This pin provides four operation modes according to its input connection. Connected directly to VDD: SPI mode. Connected to VDD through 220-k ohm pullup resistor: H/W mode, single-ended VOUTX. Connected to DGND through 220-k (See Datasheet)"

## PCM3060PWG4
designator U?
24-bit Asynchronous Stereo Audio CODEC with 96 / 192 kHz Sampling Rate, 2 ADCs and 2 DACs, 105 dB DAC SNR, -25 to 85 degC, 28-pin TSSOP (PW), Green (RoHS & no Sb/Br); Manufacturer: Texas Instruments; PartNumber: PCM3060PWG4; # ADCs (typ): 2; Control Interface: SPI, I2C, H/W; DAC SNR: 105; Digital Audio Interfaces: R, L, I2S; Line Powered: TRUE; Sampling Rate (Max) (kHz): 192; DatasheetVersion: SLAS533B; PackageVersion: revG, Feb-2011; PackageReference: PW28; PackageDescription: 28-Pin Plastic Thin Small Outline Package 9.7 x 4.4 mm Body ,0.65 mm Pitch; Supplier 1: Digi-Key; Supplier Part Number 1: PCM3060PWG4-ND; Supplier 2: Newark; Supplier Part Number 2: 65M1875; Supplier 3: Mouser; Supplier Part Number 3: 595-PCM3060PWG4; # DACs: 2; Additional Features: Asynchronous; Mounting Technology: Surface Mount; Code_JEDEC: MO-153; ComponentLink1Description: Datasheet; ComponentLink1URL: http://www.ti.com/general/docs/lit/getliterature.tsp?genericPartNumber=PCM3060&fileType=pdf
footprint PW28_N (TSOP, 28-Leads, Body 9.7x4.4mm, Pitch 0.65mm, IPC Medium Density)
footprint PW28_L (TSOP, 28-Leads, Body 9.7x4.4mm, Pitch 0.65mm, IPC High Density)
footprint PW28_M (TSOP, 28-Leads, Body 9.7x4.4mm, Pitch 0.65mm, IPC Low Density)
pins: 1 MC/SCL/FMT (in) "Mode control, clock for SPI, clock for I2C, format for H/W mode", 2 MD/SDA/DEMP (io) "Mode control, data for SPI, data for I2C, de-emphasis for H/W mode", 3 DOUT (out) "Audio data digital output for ADC", 4 LRCK1 (io) "Audio data left/right clock input/output for ADC", 5 BCK1 (io) "Audio data bit clock input/output for ADC", 6 SCKI1 (in) "System clock input for ADC", 7 VDD (power) "Digital power supply, 3.3-V", 8 DGND (power) "Digital ground", 9 SCKI2 (in) "System clock input for DAC", 10 BCK2 (io) "Audio data bit clock input/output for DAC", 11 LRCK2 (io) "Audio data left/right clock input/output for DAC", 12 DIN (in) "Audio data digital input for DAC", 13 ZEROR (out) "Zero flag, R-channel", 14 ZEROL (out) "Zero flag, L-channel", 15 ~{RST} (in) "Reset and power-down control input, active-low", 16 SGND (power) "Shield analog ground", 17 VOUTR- (out) "Analog output from DAC, R-channel - in differential mode, must be open in single-ended mode", 18 VOUTR+ (out) "Analog output from DAC, R-channel + in differential mode, R-channel in single-ended mode", 19 VOUTL- (out) "Analog output from DAC, L-channel - in differential mode, must be open in single-ended mode", 20 VOUTL+ (out) "Analog output from DAC, L-channel + in differential mode, L-channel in single-ended mode", 21 VCOM "ADC, DAC voltage common decoupling", 22 AGND2 (power) "DAC analog ground", 23 AGND1 (power) "ADC analog ground", 24 VCC (power) "ADC, DAC analog power supply, 5-V", 25 VINL (in) "Analog input to ADC, L-channel", 26 VINR (in) "Analog input to ADC, R-channel", 27 ~{MS}/ADR/IFMD (in) "Mode control, select for SPI with low active, address for I2C, I/F mode for H/W mode", 28 MODE (in) "This pin provides four operation modes according to its input connection. Connected directly to VDD: SPI mode. Connected to VDD through 220-k ohm pullup resistor: H/W mode, single-ended VOUTX. Connected to DGND through 220-k (See Datasheet)"

## PCM3060PWR
designator U?
24-bit Asynchronous Stereo Audio CODEC with 96 / 192 kHz Sampling Rate, 2 ADCs and 2 DACs, 105 dB DAC SNR, -25 to 85 degC, 28-pin TSSOP (PW), Green (RoHS & no Sb/Br); Manufacturer: Texas Instruments; PartNumber: PCM3060PWR; # ADCs (typ): 2; Control Interface: SPI, I2C, H/W; DAC SNR: 105; Digital Audio Interfaces: R, L, I2S; Line Powered: TRUE; Sampling Rate (Max) (kHz): 192; DatasheetVersion: SLAS533B; PackageVersion: revG, Feb-2011; PackageReference: PW28; PackageDescription: 28-Pin Plastic Thin Small Outline Package 9.7 x 4.4 mm Body ,0.65 mm Pitch; Supplier 1: Digi-Key; Supplier Part Number 1: PCM3060PWR-ND; Supplier 2: Newark; Supplier Part Number 2: 36M9295; Supplier 3: Mouser; Supplier Part Number 3: 595-PCM3060PWR; # DACs: 2; Additional Features: Asynchronous; Mounting Technology: Surface Mount; Code_JEDEC: MO-153; ComponentLink1Description: Datasheet; ComponentLink1URL: http://www.ti.com/general/docs/lit/getliterature.tsp?genericPartNumber=PCM3060&fileType=pdf
footprint PW28_N (TSOP, 28-Leads, Body 9.7x4.4mm, Pitch 0.65mm, IPC Medium Density)
footprint PW28_L (TSOP, 28-Leads, Body 9.7x4.4mm, Pitch 0.65mm, IPC High Density)
footprint PW28_M (TSOP, 28-Leads, Body 9.7x4.4mm, Pitch 0.65mm, IPC Low Density)
pins: 1 MC/SCL/FMT (in) "Mode control, clock for SPI, clock for I2C, format for H/W mode", 2 MD/SDA/DEMP (io) "Mode control, data for SPI, data for I2C, de-emphasis for H/W mode", 3 DOUT (out) "Audio data digital output for ADC", 4 LRCK1 (io) "Audio data left/right clock input/output for ADC", 5 BCK1 (io) "Audio data bit clock input/output for ADC", 6 SCKI1 (in) "System clock input for ADC", 7 VDD (power) "Digital power supply, 3.3-V", 8 DGND (power) "Digital ground", 9 SCKI2 (in) "System clock input for DAC", 10 BCK2 (io) "Audio data bit clock input/output for DAC", 11 LRCK2 (io) "Audio data left/right clock input/output for DAC", 12 DIN (in) "Audio data digital input for DAC", 13 ZEROR (out) "Zero flag, R-channel", 14 ZEROL (out) "Zero flag, L-channel", 15 ~{RST} (in) "Reset and power-down control input, active-low", 16 SGND (power) "Shield analog ground", 17 VOUTR- (out) "Analog output from DAC, R-channel - in differential mode, must be open in single-ended mode", 18 VOUTR+ (out) "Analog output from DAC, R-channel + in differential mode, R-channel in single-ended mode", 19 VOUTL- (out) "Analog output from DAC, L-channel - in differential mode, must be open in single-ended mode", 20 VOUTL+ (out) "Analog output from DAC, L-channel + in differential mode, L-channel in single-ended mode", 21 VCOM "ADC, DAC voltage common decoupling", 22 AGND2 (power) "DAC analog ground", 23 AGND1 (power) "ADC analog ground", 24 VCC (power) "ADC, DAC analog power supply, 5-V", 25 VINL (in) "Analog input to ADC, L-channel", 26 VINR (in) "Analog input to ADC, R-channel", 27 ~{MS}/ADR/IFMD (in) "Mode control, select for SPI with low active, address for I2C, I/F mode for H/W mode", 28 MODE (in) "This pin provides four operation modes according to its input connection. Connected directly to VDD: SPI mode. Connected to VDD through 220-k ohm pullup resistor: H/W mode, single-ended VOUTX. Connected to DGND through 220-k (See Datasheet)"

## PCM3060PWRG4
designator U?
24-bit Asynchronous Stereo Audio CODEC with 96 / 192 kHz Sampling Rate, 2 ADCs and 2 DACs, 105 dB DAC SNR, -25 to 85 degC, 28-pin TSSOP (PW), Green (RoHS & no Sb/Br); Manufacturer: Texas Instruments; PartNumber: PCM3060PWRG4; # ADCs (typ): 2; Control Interface: SPI, I2C, H/W; DAC SNR: 105; Digital Audio Interfaces: R, L, I2S; Line Powered: TRUE; Sampling Rate (Max) (kHz): 192; DatasheetVersion: SLAS533B; PackageVersion: revG, Feb-2011; PackageReference: PW28; PackageDescription: 28-Pin Plastic Thin Small Outline Package 9.7 x 4.4 mm Body ,0.65 mm Pitch; Supplier 1: Digi-Key; Supplier Part Number 1: PCM3060PWRG4-ND; Supplier 2: Newark; Supplier Part Number 2: 65M1876; Supplier 3: Mouser; Supplier Part Number 3: 595-PCM3060PWRG4; # DACs: 2; Additional Features: Asynchronous; Mounting Technology: Surface Mount; Code_JEDEC: MO-153; ComponentLink1Description: Datasheet; ComponentLink1URL: http://www.ti.com/general/docs/lit/getliterature.tsp?genericPartNumber=PCM3060&fileType=pdf
footprint PW28_N (TSOP, 28-Leads, Body 9.7x4.4mm, Pitch 0.65mm, IPC Medium Density)
footprint PW28_L (TSOP, 28-Leads, Body 9.7x4.4mm, Pitch 0.65mm, IPC High Density)
footprint PW28_M (TSOP, 28-Leads, Body 9.7x4.4mm, Pitch 0.65mm, IPC Low Density)
pins: 1 MC/SCL/FMT (in) "Mode control, clock for SPI, clock for I2C, format for H/W mode", 2 MD/SDA/DEMP (io) "Mode control, data for SPI, data for I2C, de-emphasis for H/W mode", 3 DOUT (out) "Audio data digital output for ADC", 4 LRCK1 (io) "Audio data left/right clock input/output for ADC", 5 BCK1 (io) "Audio data bit clock input/output for ADC", 6 SCKI1 (in) "System clock input for ADC", 7 VDD (power) "Digital power supply, 3.3-V", 8 DGND (power) "Digital ground", 9 SCKI2 (in) "System clock input for DAC", 10 BCK2 (io) "Audio data bit clock input/output for DAC", 11 LRCK2 (io) "Audio data left/right clock input/output for DAC", 12 DIN (in) "Audio data digital input for DAC", 13 ZEROR (out) "Zero flag, R-channel", 14 ZEROL (out) "Zero flag, L-channel", 15 ~{RST} (in) "Reset and power-down control input, active-low", 16 SGND (power) "Shield analog ground", 17 VOUTR- (out) "Analog output from DAC, R-channel - in differential mode, must be open in single-ended mode", 18 VOUTR+ (out) "Analog output from DAC, R-channel + in differential mode, R-channel in single-ended mode", 19 VOUTL- (out) "Analog output from DAC, L-channel - in differential mode, must be open in single-ended mode", 20 VOUTL+ (out) "Analog output from DAC, L-channel + in differential mode, L-channel in single-ended mode", 21 VCOM "ADC, DAC voltage common decoupling", 22 AGND2 (power) "DAC analog ground", 23 AGND1 (power) "ADC analog ground", 24 VCC (power) "ADC, DAC analog power supply, 5-V", 25 VINL (in) "Analog input to ADC, L-channel", 26 VINR (in) "Analog input to ADC, R-channel", 27 ~{MS}/ADR/IFMD (in) "Mode control, select for SPI with low active, address for I2C, I/F mode for H/W mode", 28 MODE (in) "This pin provides four operation modes according to its input connection. Connected directly to VDD: SPI mode. Connected to VDD through 220-k ohm pullup resistor: H/W mode, single-ended VOUTX. Connected to DGND through 220-k (See Datasheet)"

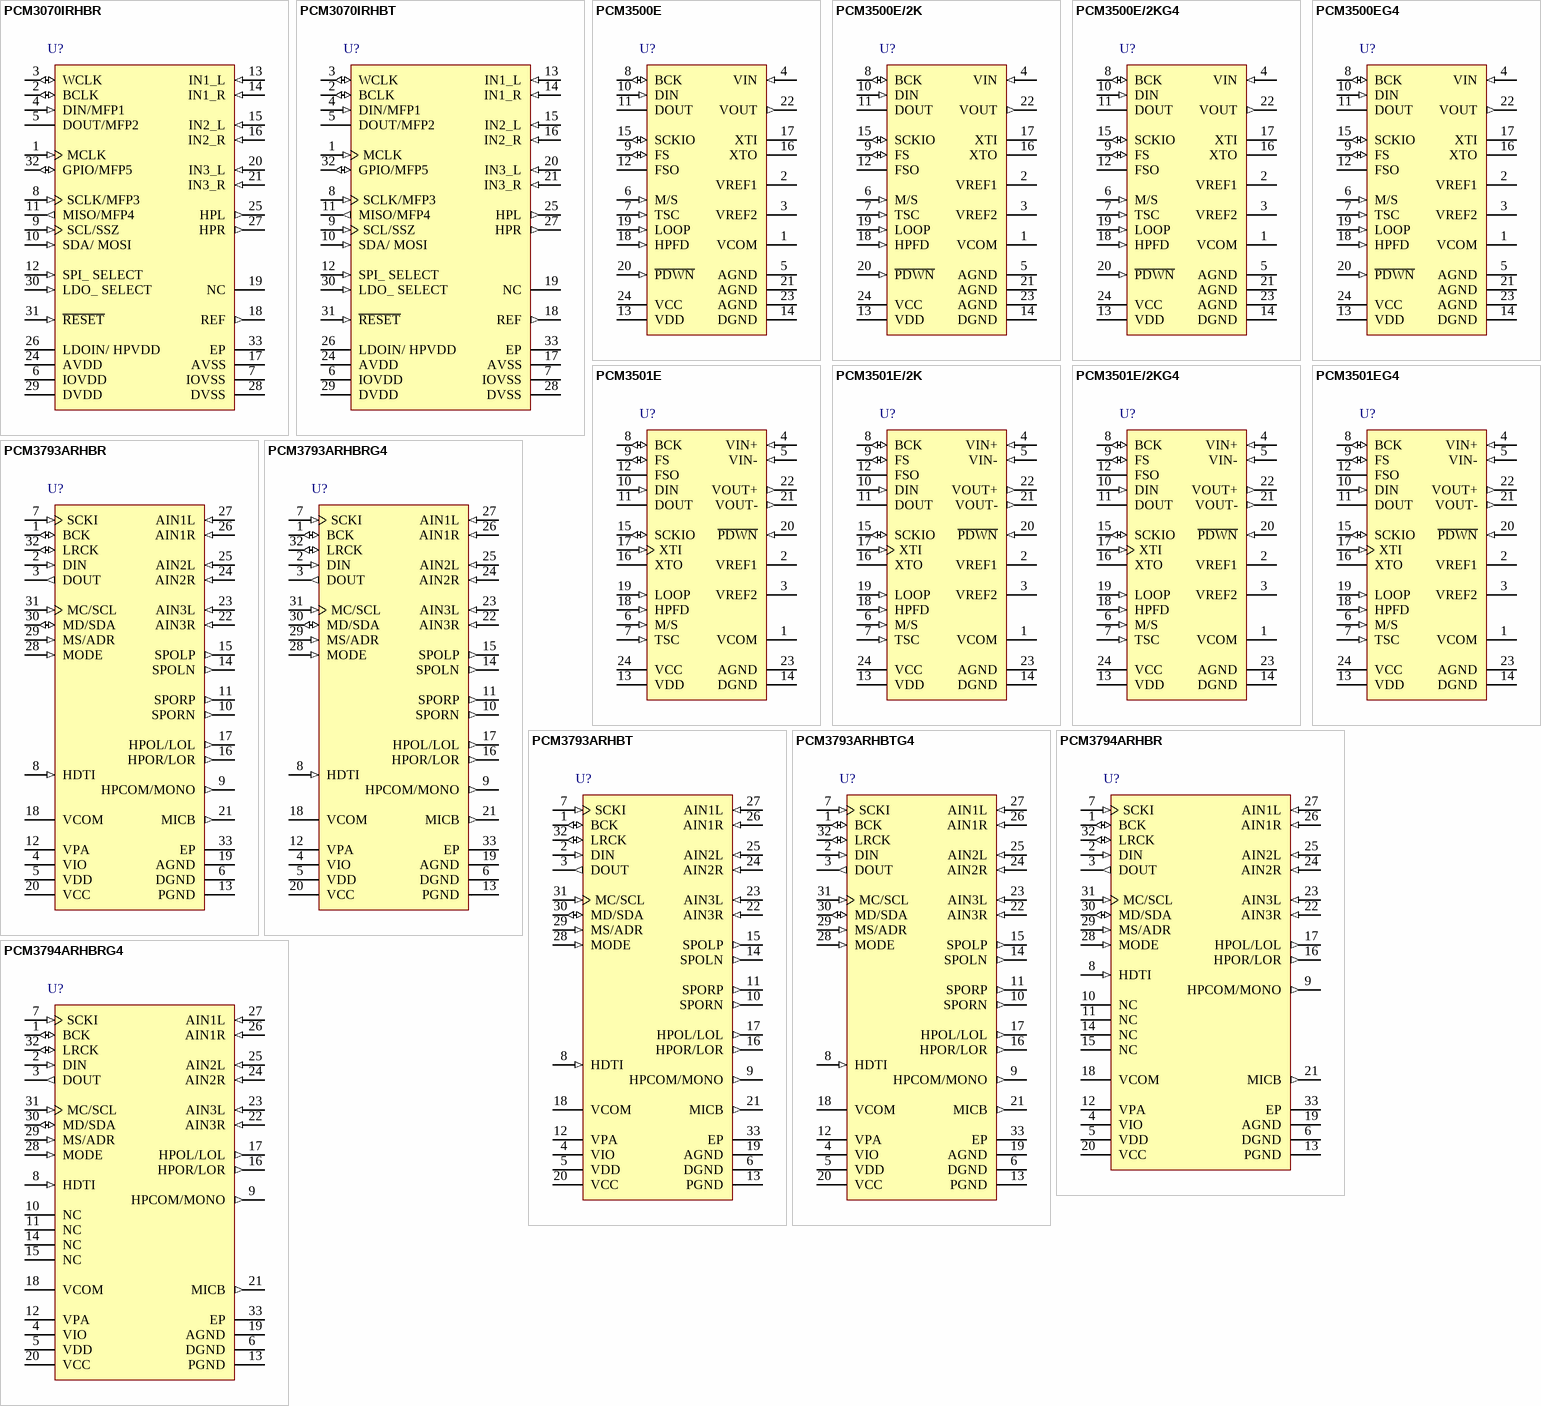
[diagram p2: symbols PCM3070IRHBR to PCM3794ARHBRG4]